# EAGLE library part BQ25100 (library BQ25100)
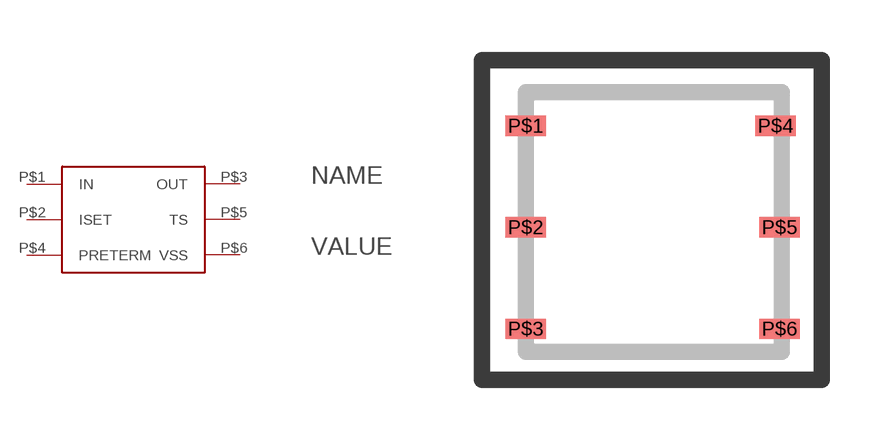
[diagram p0: symbol with the pads of BQ25100; footprint BQ25100]

Designator prefix -

## BQ25100  [BQ25100]
P$1  IN
P$2  ISET
P$3  OUT
P$4  PRETERM
P$5  TS
P$6  VSS

## Footprint BQ25100 (pad centres in mm)
smd 1.016 x 0.508: P$1 -12.7,6.35; P$2 -12.7,3.81; P$3 -12.7,1.27; P$4 -6.45,6.35; P$5 -6.35,3.81; P$6 -6.35,1.27